# Altium integrated library current sense.IntLib: 2 symbols
Pins are listed as number, name and electrical type; pins without a type are passive.

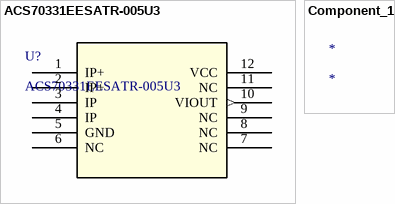
[diagram p0: symbols ACS70331EESATR-005U3 to Component_1]

## ACS70331EESATR-005U3
designator U?
No Description Available; Vendor: Allegro Microsystems Inc.; Built_By: EMA_Molly; SourceLibrary: Allegro_2019-12-17; Manufacturer_Part_Number: ACS70331EESATR-005U3; Copyright: Copyright (C) 2018 Accelerated Designs. All rights reserved; RefDes: RefDes; Type: DEV
footprint QFN-12_ALM
pins: 1 IP+, 2 IP+, 3 IP, 4 IP, 5 GND, 6 NC, 7 NC, 8 NC, 9 NC, 10 VIOUT (out), 11 NC, 12 VCC (power)

## Component_1
designator *